# EAGLE library part AD8618ARUZ (library analog-devices)
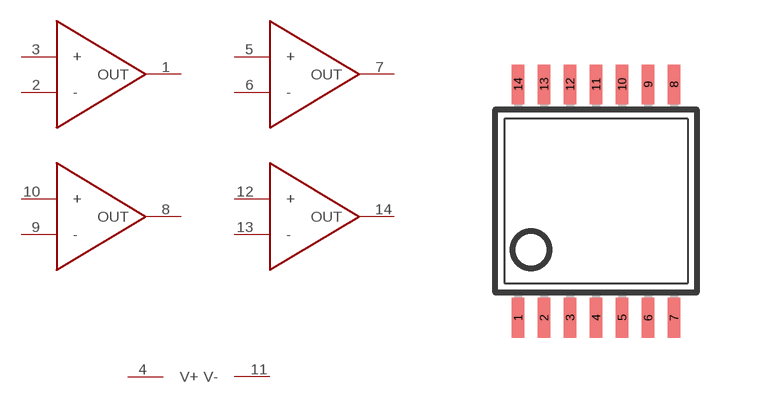
[diagram p0: symbol with the pads of TSSOP_14; footprint TSSOP_14]

Designator prefix IC; gates G$1=OPV G$2=OPV G$3=OPV G$4=OPV G$5=VOLT

## AD8618ARUZ  [TSSOP_14]
1  G$1:OUT
2  G$1:-
3  G$1:+
4  G$5:V+
5  G$2:+
6  G$2:-
7  G$2:OUT
8  G$3:OUT
9  G$3:-
10  G$3:+
11  G$5:V-
12  G$4:+
13  G$4:-
14  G$4:OUT

## Footprint TSSOP_14 (pad centres in mm)
smd 0.305 x 0.991: 1 -1.95,-2.918; 2 -1.3,-2.918; 3 -0.65,-2.918; 4 0,-2.918; 5 0.65,-2.918; 6 1.3,-2.918; 7 1.95,-2.918; 8 1.95,2.918; 9 1.3,2.918; 10 0.65,2.918; 11 0,2.918; 12 -0.65,2.918; 13 -1.3,2.918; 14 -1.95,2.918